# Altium footprint library multimodal.PcbLib: 69 footprints (part 5 of 5)
Each footprint in its own frame and in the unit in brackets; x right, y up, seen from the top. Pads: shape width x height; smd on the part's side, far side on the other; paste and mask are expansions set on the pad; w line width, h text height; cw(c..) or ccw(c..) is an arc to the next point about the centre after c.
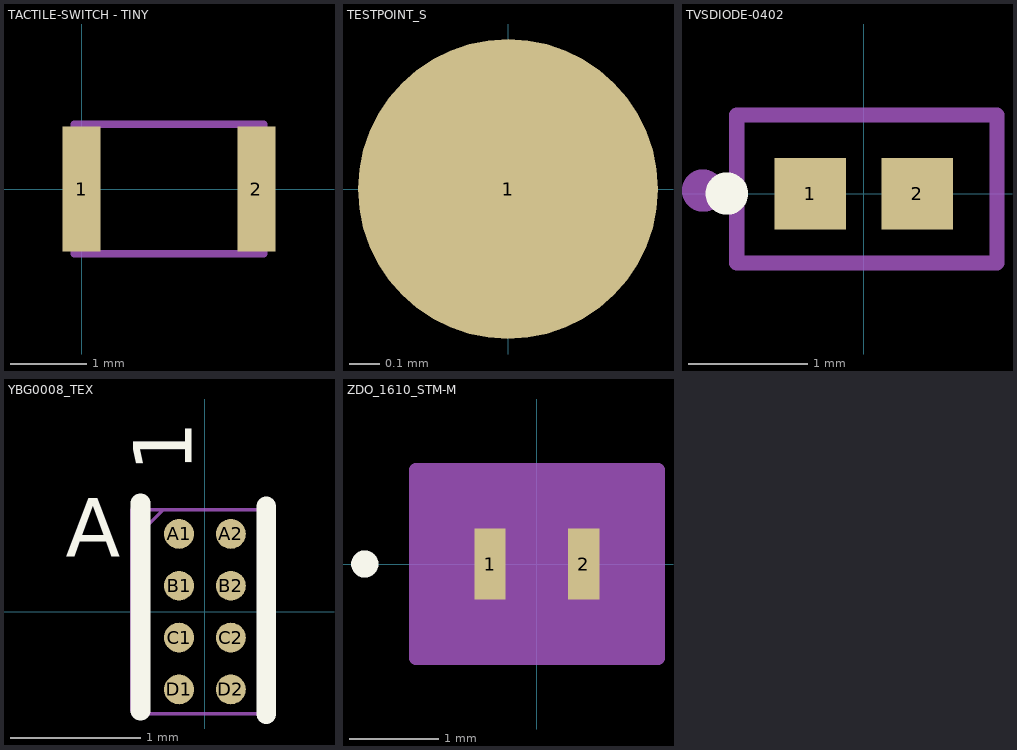
[diagram p4: the footprints below, top view; thin cyan lines are the x and y axes]

## TACTILE-SWITCH - TINY [mm] "NANOT 240 AS SWITCH TACTILE SPST-NO 0.02A 15V"
pads (2):
  rect 0.5x1.65 smd paste+0: 1(0,0) 2(2.3,0)
Mechanical 13:
  lines w0.1: -0.1,-0.85 2.4,-0.85 2.4,0.85 -0.1,0.85 -0.1,-0.825
  text ".Designator" at -1.425,-0.312 h1.27

## TESTPOINT_S [mm]
pads (1):
  round 1 smd: 1(0,0)

## TVSDIODE-0402 [mm] "DFN, 2-Leads, Body 0.61x1.01mm, Pitch 0.65mm, IPC Medium Density"
height 0.53
pads (2):
  rect 0.6x0.6 smd: 1(-0.45,0) 2(0.45,0)
Top Overlay:
  circle w0.254: c-1.15,0 r0.051
Mechanical 13:
  circle w0.254: c-1.35,0.025 r0.051
  lines w0.127: -1.067,-0.584 -1.067,0.66 1.118,0.66 1.118,-0.584 -1.067,-0.584
  text ".Designator" at -0.9,0.163 h1.27
3D body "DFN65P101X53-2N.step": height 0.53, standoff 0, extent -0.537,-0.337 0.538,0.338

## YBG0008_TEX [mm]
pads (8):
  round 0.23 smd paste+0 mask+0: A1(-0.2,0.6) A2(0.2,0.6) B1(-0.2,0.2) B2(0.2,0.2) C1(-0.2,-0.2) C2(0.2,-0.2) D1(-0.2,-0.6) D2(0.2,-0.6)
Top Overlay:
  lines w0.152: -0.498,-0.764 -0.498,0.836 ; 0.473,-0.789 0.473,0.811
  text "1" at -0.1,1.075 h0.45
  text "A" at -1.075,0.425 h0.45
  text ".Designator" at -1.35,-1.525 h0.5
Mechanical 13:
  lines w0.025: -0.521,0.587 -0.321,0.787 ; -0.521,-0.787 0.521,-0.787 0.521,0.787 -0.521,0.787 -0.521,-0.787
  text "A" at -1.1,0.525 h0.5
  text ".Designator" at -1.325,-1.55 h0.5
Mechanical 15:
  lines w0.152: -0.5,-0.75 -0.5,0.775
3D body "YBG0008_TEX.step": height 0.51, standoff 0, extent -0.546,-0.8 0.496,0.774

## ZDO_1610_STM-M [mm]
pads (2):
  rect 0.35x0.8 smd paste+0: 1(-0.525,0) 2(0.525,0)
Top Overlay:
  circle w0.152: c-1.93,0 r0.076
  text ".Designator" at -2.35,-0.5 h1.27
Mechanical 13:
  circle w0.025: c0,0 r0.076
  lines w0.025: -0.851,-0.546 0.851,-0.546 0.851,0.546 -0.851,0.546 -0.851,-0.546
  text ".Designator" at -2.175,-0.375 h1.27
Mechanical 15:
  region: -1.359,-0.953 -1.359,0.953 -1.359,1.054 1.359,1.054 1.359,0.953 1.359,-0.953 1.359,-1.054 -1.359,-1.054
  lines w0.152: -1.359,-1.054 -1.359,-0.953 -1.359,0.953 -1.359,1.054 1.359,1.054 1.359,0.953 1.359,-0.953 1.359,-1.054 -1.359,-1.054
3D body "ZDO_1610_STM.step": height 0.61, standoff 0, extent -0.851,-0.546 0.851,0.546